# Altium footprint library 87224-1.PcbLib: 1 footprints
Each footprint in its own frame and in the unit in brackets; x right, y up, seen from the top. Pads: shape width x height; smd on the part's side, far side on the other; paste and mask are expansions set on the pad; w line width, h text height; cw(c..) or ccw(c..) is an arc to the next point about the centre after c.
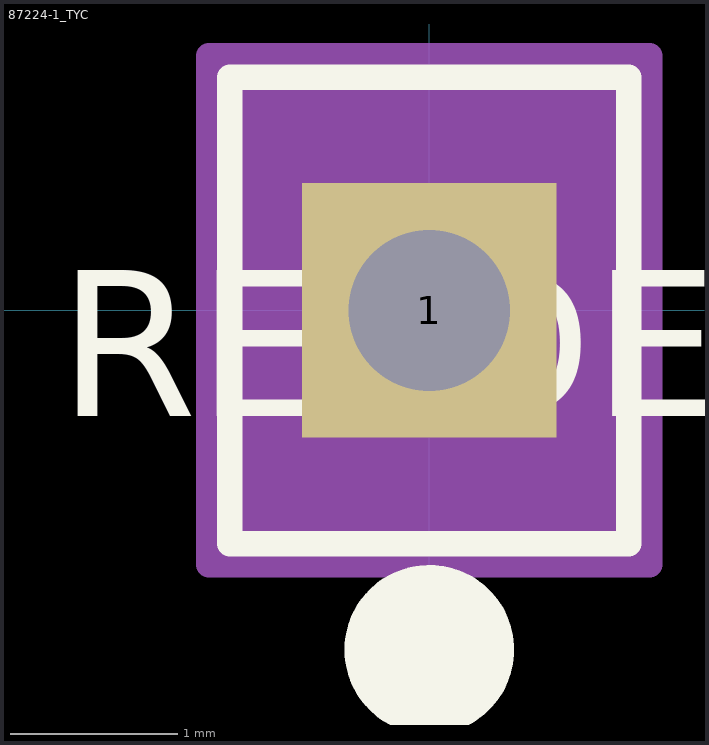
[diagram p0: the footprint, top view; thin cyan lines are the x and y axes]

## 87224-1_TYC [mil]
pads (1):
  rect 60x60 / inner round 60 / far side rect 60x60 hole 38 paste-30 mask+0: 1(0,0)
Top Overlay:
  circle w20: c0,-80 r10
  lines w6: -47,-55 47,-55 47,55 -47,55 -47,-55
  text "REFDES" at -87.5,-25 h50
Mechanical 13:
  circle w0: c0,-35 r10
  lines w1: -42,-50 42,-50 42,50 -42,50 -42,-50
  text "RefDes2" at -87.5,-25 h50
Mechanical 15:
  region: 52,60 -52,60 -52,-60 52,-60
  lines w6: -52,-60 -52,60 52,60 52,-60 -52,-60
3D body "87224-1_TYC.step": height 90, standoff -200, extent -50,-50 50,50